# Altium footprint library SnapEDApcb.PcbLib: 1 footprints
Each footprint in its own frame and in the unit in brackets; x right, y up, seen from the top. Pads: shape width x height; smd on the part's side, far side on the other; paste and mask are expansions set on the pad; w line width, h text height; cw(c..) or ccw(c..) is an arc to the next point about the centre after c.
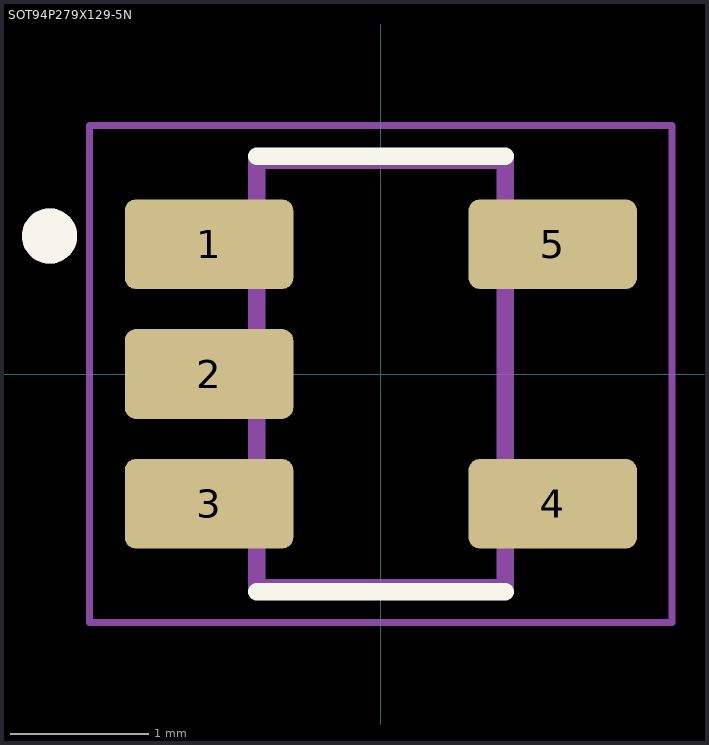
[diagram p0: the footprint, top view; thin cyan lines are the x and y axes]

## SOT94P279X129-5N [mm]
pads (5):
  rrect25% 1.22x0.65 smd: 1(-1.245,0.94) 2(-1.245,0) 3(-1.245,-0.94) 4(1.245,-0.94) 5(1.245,0.94)
Top Overlay:
  circle w0.2: c-2.4,1 r0.1
  lines w0.127: -0.9,-1.579 0.9,-1.579 ; -0.9,1.579 0.9,1.579
Mechanical 13:
  circle w0.2: c-2.4,1 r0.1
  lines w0.127: -0.9,-1.55 -0.9,1.55 0.9,1.55 0.9,-1.55 -0.9,-1.55
Mechanical 15:
  lines w0.05: -2.11,-1.8 -2.11,1.8 2.11,1.8 2.11,-1.8 -2.11,-1.8
3D body "RT9013-33GB.STEP": height 1.3, standoff 0, extent -1.397,-1.448 1.397,1.448